# Altium schematic symbol library Trans_Infineon_IRLML2402TRPBF_eec.SchLib: 1 symbol
Pins are listed as number, name and electrical type; pins without a type are passive.

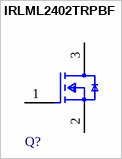
[diagram p0: symbol IRLML2402TRPBF]

## IRLML2402TRPBF
designator Q?  (value not drawn)
pins: 1 G, 2 S, 3 D